# Altium footprint library V_16.PcbLib: 4 footprints
Each footprint in its own frame and in the unit in brackets; x right, y up, seen from the top. Pads: shape width x height; smd on the part's side, far side on the other; paste and mask are expansions set on the pad; w line width, h text height; cw(c..) or ccw(c..) is an arc to the next point about the centre after c.
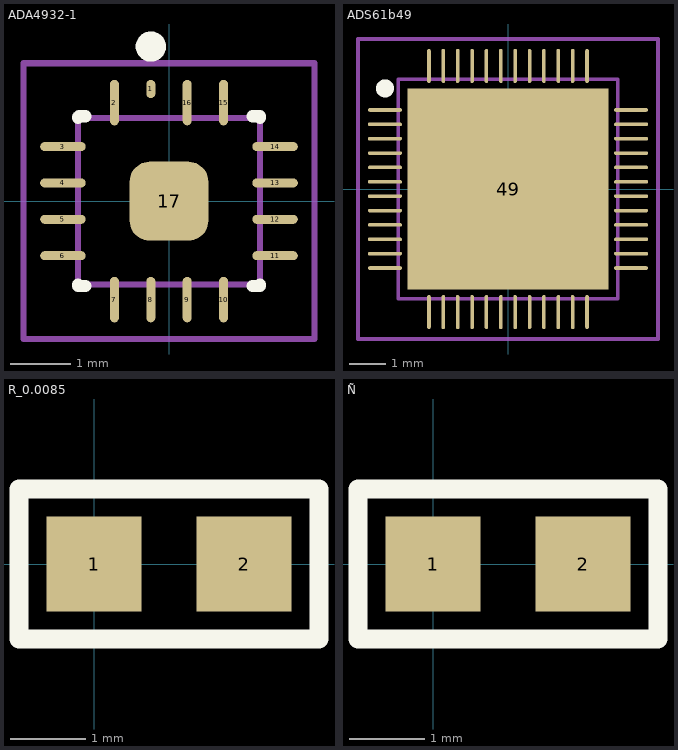
[diagram p0: the footprints below, top view; thin cyan lines are the x and y axes]

## ADA4932-1 [mm] "LCC, 16-Pins, Body 3,0x2,8mm (max), Pitch 0,60mm, IPC Medium Density"
height 1
pads (17):
  oval 0.15x0.3 smd: 1(-0.3,1.85)
  oval 0.15x0.75 smd: 2(-0.9,1.625) 7(-0.9,-1.625) 8(-0.3,-1.625) 9(0.3,-1.625) 10(0.9,-1.625) 15(0.9,1.625) 16(0.3,1.625)
  oval 0.75x0.15 smd: 3(-1.75,0.9) 4(-1.75,0.3) 5(-1.75,-0.3) 6(-1.75,-0.9) 11(1.75,-0.9) 12(1.75,-0.3) 13(1.75,0.3) 14(1.75,0.9)
  rrect50% 1.3x1.3 smd: 17(0,0)
Top Overlay:
  circle w0.25: c-0.3,2.55 r0.125
  lines w0.2: -1.5,-1.375 -1.5,-1.4 -1.375,-1.4 ; -1.5,1.375 -1.5,1.388 -1.488,1.4 -1.375,1.4 ; 1.375,-1.4 1.5,-1.4 1.5,-1.375 ; 1.375,1.4 1.5,1.4 1.5,1.375
Mechanical 13:
  lines w0.1: -1.5,-1.375 1.5,-1.375 1.5,1.375 -1.488,1.375 -1.5,1.363 -1.5,-1.375
Mechanical 15:
  lines w0.1: -0.5,0 0.5,0 ; 0,-0.5 0,0.5 ; -2.4,-2.275 2.4,-2.275 2.4,2.275 -2.4,2.275 -2.4,-2.275
3D body: height 1, standoff 0, extent -1.5,-1.375 1.5,1.375

## ADS61b49 [mm]
height 1
pads (49):
  oval 0.95x0.1 smd: 1(-3.425,2.2) 2(-3.425,1.8) 3(-3.425,1.4) 4(-3.425,1) 5(-3.425,0.6) 6(-3.425,0.2) 7(-3.425,-0.2) 8(-3.425,-0.6) 9(-3.425,-1) 10(-3.425,-1.4) 11(-3.425,-1.8) 12(-3.425,-2.2) 25(3.425,-2.2) 26(3.425,-1.8) 27(3.425,-1.4) 28(3.425,-1) 29(3.425,-0.6) 30(3.425,-0.2) 31(3.425,0.2) 32(3.425,0.6) 33(3.425,1) 34(3.425,1.4) 35(3.425,1.8) 36(3.425,2.2)
  oval 0.1x0.95 smd: 13(-2.2,-3.425) 14(-1.8,-3.425) 15(-1.4,-3.425) 16(-1,-3.425) 17(-0.6,-3.425) 18(-0.2,-3.425) 19(0.2,-3.425) 20(0.6,-3.425) 21(1,-3.425) 22(1.4,-3.425) 23(1.8,-3.425) 24(2.2,-3.425) 37(2.2,3.425) 38(1.8,3.425) 39(1.4,3.425) 40(1,3.425) 41(0.6,3.425) 42(0.2,3.425) 43(-0.2,3.425) 44(-0.6,3.425) 45(-1,3.425) 46(-1.4,3.425) 47(-1.8,3.425) 48(-2.2,3.425)
  rect 5.6x5.6 smd: 49(0,0)
Top Overlay:
  circle w0.25: c-3.425,2.8 r0.125
  circle w0.6: c-1.55,1.55 r0.3
  lines w0.2: -2.55,-2.55 -2.55,2.55 2.55,2.55 2.55,-2.55 -2.55,-2.55
Mechanical 13:
  circle w0.1: c-2.1,2.1 r0.5
  lines w0.1: -3.05,-3.05 -3.05,3.05 3.05,3.05 3.05,-3.05 -3.05,-3.05
Mechanical 15:
  lines w0.1: -0.5,0 0.5,0 ; 0,-0.5 0,0.5 ; -4.175,-4.175 -4.175,4.175 4.175,4.175 4.175,-4.175 -4.175,-4.175
3D body: height 1, standoff 0.25, extent -3.05,-3.05 3.05,3.05

## R_0.0085 [mm]
pads (2):
  rect 1.27x1.27 smd: 1(0,0) 2(2,0)
Top Overlay:
  lines w0.254: -1,-1 3,-1 3,1 -1,1 -1,-1

## Ñ [mm]
pads (2):
  rect 1.27x1.27 smd: 1(0,0) 2(2,0)
Top Overlay:
  lines w0.254: -1,-1 -1,1 3,1 3,-1 -1,-1